# Altium footprint library TO229P994X256-3N-V.PcbLib: 1 footprints
Each footprint in its own frame and in the unit in brackets; x right, y up, seen from the top. Pads: shape width x height; smd on the part's side, far side on the other; paste and mask are expansions set on the pad; w line width, h text height; cw(c..) or ccw(c..) is an arc to the next point about the centre after c.
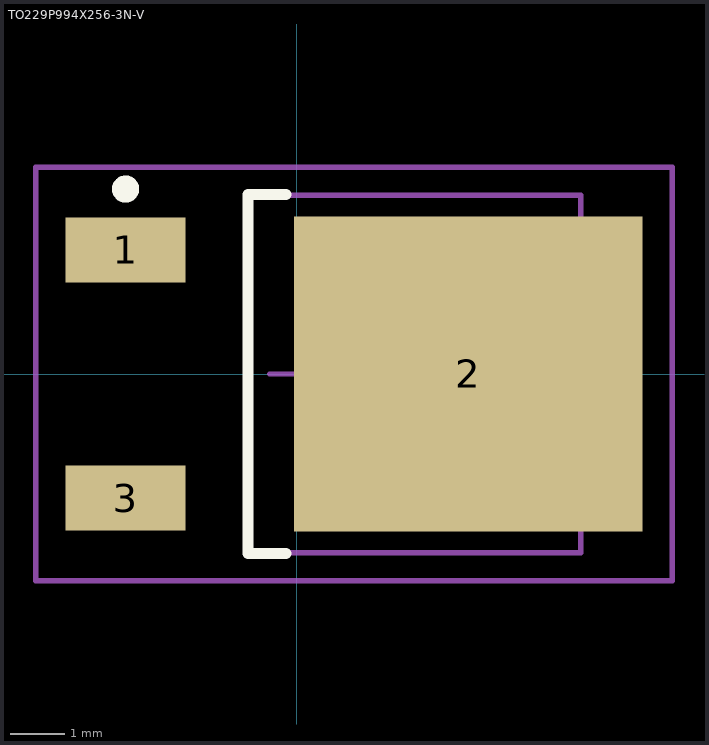
[diagram p0: the footprint, top view; thin cyan lines are the x and y axes]

## TO229P994X256-3N-V [mm] "TO,2.29mm pitch;2 pin,9.94mm L X 6.095mm W X 2.56mm H body"
height 2.56
pads (3):
  rect 2.2x1.2 smd paste+0 mask+0: 1(-3.15,2.28) 3(-3.15,-2.28)
  rect 6.4x5.8 smd paste+0 mask+0: 2(3.15,0)
Top Overlay:
  circle w0.25: c-3.15,3.4 r0.125
  lines w0.2: -0.2,-3.3 -0.9,-3.3 -0.9,3.3 -0.2,3.3
M3 (ASY_Text_Top):
  text ".DESIGNATOR" at 0,0 h1.2
M13 (CMP_Body_OTL_Top):
  lines w0.1: -0.875,-3.282 -0.875,3.282 5.22,3.282 5.22,-3.282 -0.875,-3.282
M15 (CMP_Courtyard_Top):
  lines w0.1: -0.5,0 0.5,0 ; 0,-0.5 0,0.5 ; -4.8,-3.8 6.9,-3.8 6.9,3.8 -4.8,3.8 -4.8,-3.8
3D body "PG-TO252-3-313.stp": height 2.36, standoff 0, extent -3.94,-3.25 6.04,3.25